# Altium schematic symbol library son.SchLib: 1 symbol
Pins are listed as number, name and electrical type; pins without a type are passive.

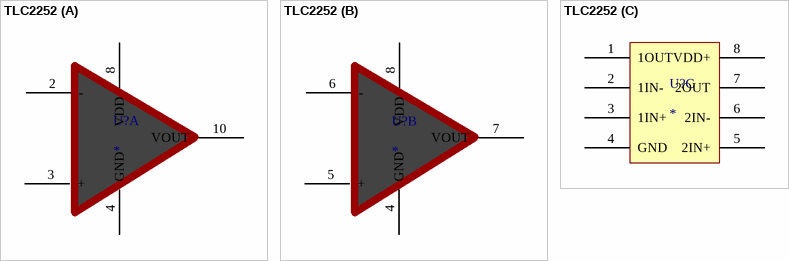
[diagram p0: symbol TLC2252]

## TLC2252
designator U?
part A pins: 2 -, 3 +, 4 GND, 8 VDD, 10 VOUT
part B pins: 4 GND, 5 +, 6 -, 7 VOUT, 8 VDD
part C pins: 1 1OUT, 2 1IN-, 3 1IN+, 4 GND, 5 2IN+, 6 2IN-, 7 2OUT, 8 VDD+